# EAGLE library part AT25DF081A-SSH-B (library AT25DF081A-SSH-B)
None
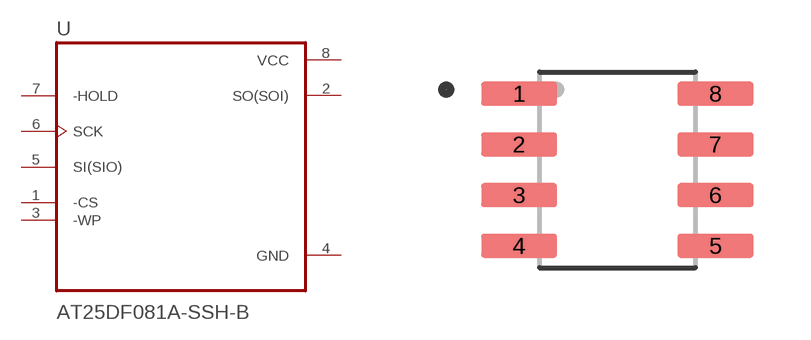
[diagram p0: symbol with the pads of SOIC127P600X175-8N; footprint SOIC127P600X175-8N]

Designator prefix U

## AT25DF081A-SSH-B (Availability: Unavailable; Description: Flash Mem Serial-SPI 3.3V 8M-Bit 1M x 8 8-Pin SOIC W Bulk; MF: Adesto Technologies; MP: AT25DF081A-SSH-B; Package: SOIC-8 Microchip; Price: None)  [SOIC127P600X175-8N]
1  -CS
2  SO(SOI)  out
3  -WP
4  GND  pwr
5  SI(SIO)  in
6  SCK  in
7  -HOLD  in
8  VCC  pwr

## Footprint SOIC127P600X175-8N (pad centres in mm)
smd 1.9 x 0.6: 1 -2.455,1.905; 2 -2.455,0.635; 3 -2.455,-0.635; 4 -2.455,-1.905; 5 2.455,-1.905; 6 2.455,-0.635; 7 2.455,0.635; 8 2.455,1.905